# EAGLE library part TM4C123BH6PM (library microcontrollers)
TI TM4C123BH6PMI ARM Cortex-M4 Microcontroller 64 Pin, 80 MHz, 256 kB Flash, 32 kB SRAM, CAN Source : http://www.ti.com/lit/ds/symlink/tm4c123bh6pm.pdf Github : https://github.com/PatternAgents License : http://creativecommons.org/licenses/by-sa/3.0/ (Creative Commons 3.0) <http://creativecommons.org/licenses/by-sa/3.0/deed.en_US> PatternAgents EagleCad Libraries by PatternAgents, LLC <https://github.com/PatternAgents> is licensed under a Creative Commons Attribution-ShareAlike 3.0 Unported License <http://creativecommons.org/licenses/by-sa/3.0/deed.en_US>. Based on a work at https://github.com/PatternAgents. THIS SOFTWARE IS PROVIDED BY THE CONTRIBUTORS "AS IS" AND WITHOUT ANY EXPRESS OR IMPLIED WARRANTIES, INCLUDING, BUT NOT LIMITED TO, THE IMPLIED WARRANTIES OF MERCHANTABILITY AND FITNESS FOR A PARTICULAR PURPOSE ARE DISCLAIMED. IN NO EVENT SHALL THE COPYRIGHT OWNER OR CONTRIBUTORS BE LIABLE FOR ANY DIRECT, INDIRECT, INCIDENTAL, SPECIAL, EXEMPLARY, OR CONSEQUENTIAL DAMAGES (INCLUDING, BUT NOT LIMITED TO, PROCUREMENT OF SUBSTITUTE GOODS OR SERVICES; LOSS OF USE, DATA, OR PROFITS; OR BUSINESS INTERRUPTION) HOWEVER CAUSED AND ON ANY THEORY OF LIABILITY, WHETHER IN CONTRACT, STRICT LIABILITY, OR TORT (INCLUDING NEGLIGENCE OR OTHERWISE) ARISING IN ANY WAY OUT OF THE USE OF THIS SOFTWARE, EVEN IF ADVISED OF THE POSSIBILITY OF SUCH DAMAGE.
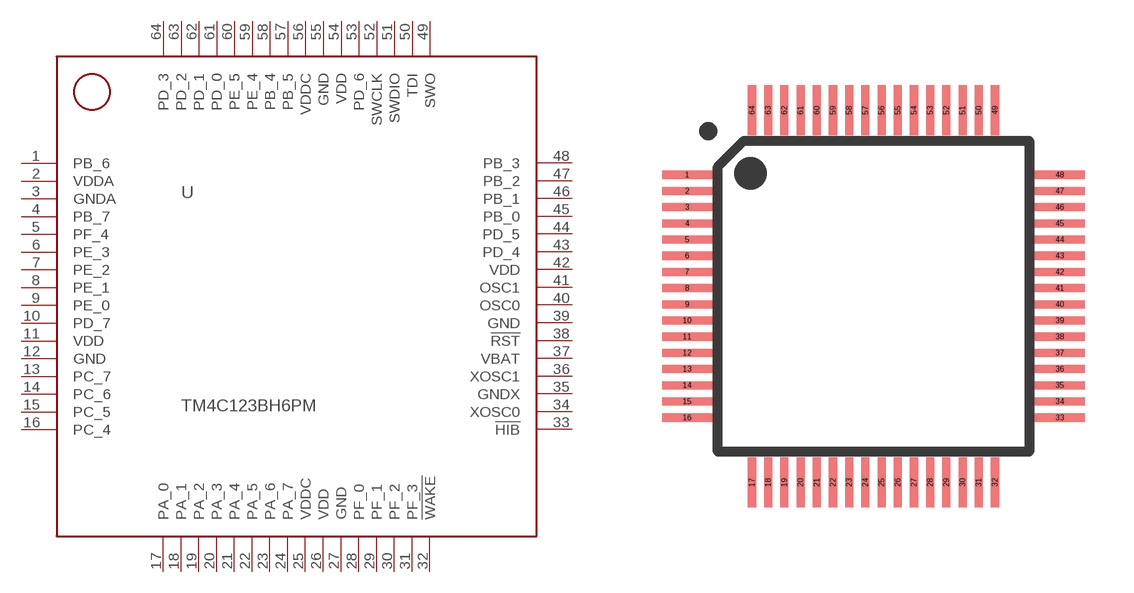
[diagram p1: symbol with the pads of LQFP64-10X10; footprint LQFP64-10X10]

Designator prefix -

## TM4C123BH6PM  [LQFP64-10X10]
1  PB_6
2  VDDA
3  GNDA
4  PB_7
5  PF_4
6  PE_3
7  PE_2
8  PE_1
9  PE_0
10  PD_7
11  VDD
12  GND
13  PC_7
14  PC_6
15  PC_5
16  PC_4
17  PA_0
18  PA_1
19  PA_2
20  PA_3
21  PA_4
22  PA_5
23  PA_6
24  PA_7
25  VDDC
26  VDD
27  GND
28  PF_0
29  PF_1
30  PF_2
31  PF_3
32  !WAKE
33  !HIB
34  XOSC0
35  GNDX
36  XOSC1
37  VBAT
38  !RST
39  GND
40  OSC0
41  OSC1
42  VDD
43  PD_4
44  PD_5
45  PB_0
46  PB_1
47  PB_2
48  PB_3
49  SWO
50  TDI
51  SWDIO
52  SWCLK
53  PD_6
54  VDD
55  GND
56  VDDC
57  PB_5
58  PB_4
59  PE_4
60  PE_5
61  PD_0
62  PD_1
63  PD_2
64  PD_3

## Footprint LQFP64-10X10 (pad centres in mm)
LQFP64-10X10 (SOT314-2) 64pin, Low profile Quad Flat Package Body Dimensions : 10x10x1.4 mm Source : http://www.ti.com/documents/outline_drawing/sot314-2_po.pdf Github : https://github.com/PatternAgents License : http://creativecommons.org/licenses/by-sa/3.0/ (Creative Commons 3.0) <http://creativecommons.org/licenses/by-sa/3.0/deed.en_US> PatternAgents EagleCad Libraries by PatternAgents, LLC <https://github.com/PatternAgents> is licensed under a Creative Commons Attribution-ShareAlike 3.0 Unported License <http://creativecommons.org/licenses/by-sa/3.0/deed.en_US>. Based on a work at https://github.com/PatternAgents. THIS SOFTWARE IS PROVIDED BY THE CONTRIBUTORS "AS IS" AND WITHOUT ANY EXPRESS OR IMPLIED WARRANTIES, INCLUDING, BUT NOT LIMITED TO, THE IMPLIED WARRANTIES OF MERCHANTABILITY AND FITNESS FOR A PARTICULAR PURPOSE ARE DISCLAIMED. IN NO EVENT SHALL THE COPYRIGHT OWNER OR CONTRIBUTORS BE LIABLE FOR ANY DIRECT, INDIRECT, INCIDENTAL, SPECIAL, EXEMPLARY, OR CONSEQUENTIAL DAMAGES (INCLUDING, BUT NOT LIMITED TO, PROCUREMENT OF SUBSTITUTE GOODS OR SERVICES; LOSS OF USE, DATA, OR PROFITS; OR BUSINESS INTERRUPTION) HOWEVER CAUSED AND ON ANY THEORY OF LIABILITY, WHETHER IN CONTRACT, STRICT LIABILITY, OR TORT (INCLUDING NEGLIGENCE OR OTHERWISE) ARISING IN ANY WAY OUT OF THE USE OF THIS SOFTWARE, EVEN IF ADVISED OF THE POSSIBILITY OF SUCH DAMAGE.
smd 1.55 x 0.25: 1 -5.75,3.75; 2 -5.75,3.25; 3 -5.75,2.75; 4 -5.75,2.25; 5 -5.75,1.75; 6 -5.75,1.25; 7 -5.75,0.75; 8 -5.75,0.25; 9 -5.75,-0.25; 10 -5.75,-0.75; 11 -5.75,-1.25; 12 -5.75,-1.75; 13 -5.75,-2.25; 14 -5.75,-2.75; 15 -5.75,-3.25; 16 -5.75,-3.75; 33 5.75,-3.75; 34 5.75,-3.25; 35 5.75,-2.75; 36 5.75,-2.25; 37 5.75,-1.75; 38 5.75,-1.25; 39 5.75,-0.75; 40 5.75,-0.25; 41 5.75,0.25; 42 5.75,0.75; 43 5.75,1.25; 44 5.75,1.75; 45 5.75,2.25; 46 5.75,2.75; 47 5.75,3.25; 48 5.75,3.75
smd 0.25 x 1.55: 17 -3.75,-5.75; 18 -3.25,-5.75; 19 -2.75,-5.75; 20 -2.25,-5.75; 21 -1.75,-5.75; 22 -1.25,-5.75; 23 -0.75,-5.75; 24 -0.25,-5.75; 25 0.25,-5.75; 26 0.75,-5.75; 27 1.25,-5.75; 28 1.75,-5.75; 29 2.25,-5.75; 30 2.75,-5.75; 31 3.25,-5.75; 32 3.75,-5.75; 49 3.75,5.75; 50 3.25,5.75; 51 2.75,5.75; 52 2.25,5.75; 53 1.75,5.75; 54 1.25,5.75; 55 0.75,5.75; 56 0.25,5.75; 57 -0.25,5.75; 58 -0.75,5.75; 59 -1.25,5.75; 60 -1.75,5.75; 61 -2.25,5.75; 62 -2.75,5.75; 63 -3.25,5.75; 64 -3.75,5.75